# EAGLE library part TPS63061 (library jseng)
TPS63031 - Step up/down 5V regulator
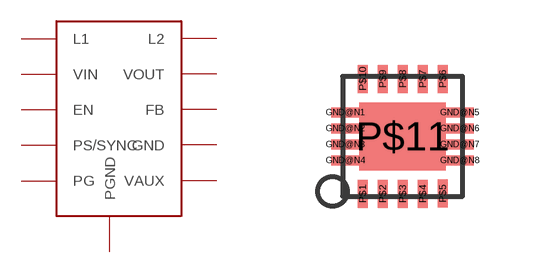
[diagram p8: symbol with the pads of WSON-10; footprint WSON-10]

Designator prefix -

## TPS63061  [WSON-10]
GND@N1  PGND
GND@N2  PGND
GND@N3  PGND
GND@N4  PGND
GND@N5  PGND
GND@N6  PGND
GND@N7  PGND
GND@N8  PGND
P$1  L1
P$2  VIN
P$3  EN
P$4  PS/SYNC
P$5  PG
P$6  VAUX
P$7  GND
P$8  FB
P$9  VOUT
P$10  L2
P$11  PGND

## Footprint WSON-10 (pad centres in mm)
smd 0.7 x 0.25: GND@N1 -1.43,0.6; GND@N2 -1.43,0.2; GND@N3 -1.43,-0.2; GND@N4 -1.43,-0.6; GND@N5 1.43,0.6; GND@N6 1.43,0.2; GND@N7 1.43,-0.2; GND@N8 1.43,-0.6
smd 0.25 x 0.7: P$1 -1,-1.44; P$2 -0.5,-1.44; P$3 0,-1.44; P$4 0.5,-1.44; P$5 1,-1.43; P$6 1,1.44; P$7 0.5,1.44; P$8 0,1.44; P$9 -0.5,1.44; P$10 -1,1.44
smd 2.16 x 1.7: P$11 0,0